# Altium footprint library X2SON-1+Ч1mm.PcbLib: 1 footprints
Each footprint in its own frame and in the unit in brackets; x right, y up, seen from the top. Pads: shape width x height; smd on the part's side, far side on the other; paste and mask are expansions set on the pad; w line width, h text height; cw(c..) or ccw(c..) is an arc to the next point about the centre after c.
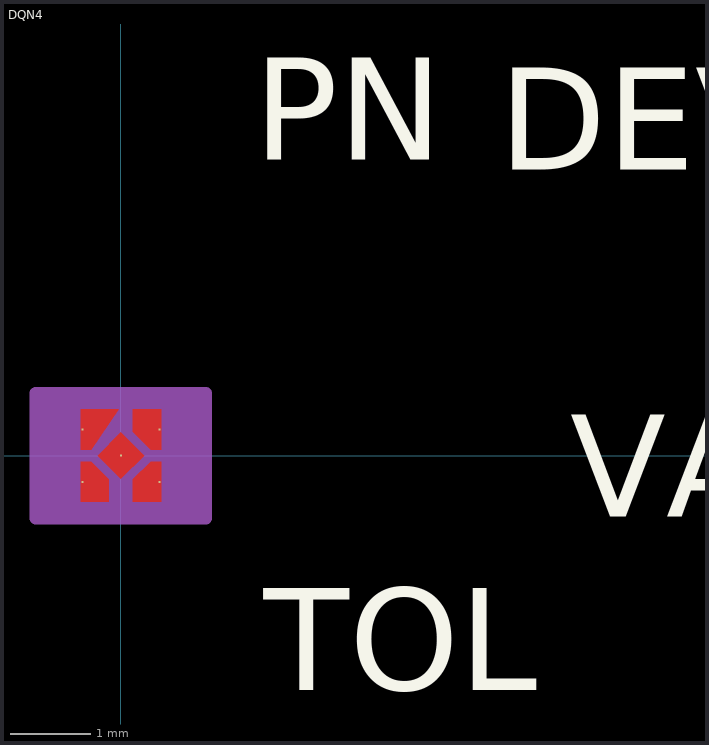
[diagram p0: the footprint, top view; thin cyan lines are the x and y axes]

## DQN4 [mil]
pads (5):
  rect 1x1 smd mask+0: 1(-18.8,12.8) 2(-18.8,-12.8) 3(18.8,-12.8) 4(18.8,12.8)
  rect 1x1 smd paste+0 mask+0: 5(0,0)
Top Layer:
  region: 11.42,0 0,11.42 -11.42,0 0,-11.42
  region: 5.91,22.64 19.68,22.64 19.68,2.95 14.57,2.95 5.91,11.61
  region: 14.57,-2.95 19.68,-2.95 19.68,-22.64 5.91,-22.64 5.91,-11.61
  region: -14.57,-2.95 -19.68,-2.95 -19.68,-22.64 -5.91,-22.64 -5.91,-11.61
  region: -0.98,22.64 -19.68,22.64 -19.68,2.95 -14.57,2.95
Top Overlay:
  text "TOL" at 70,-115 h50
  text "VAL" at 220,-30 h50
  text "DEV" at 185,140 h50
  text "PN" at 65,145 h50
Top Paste:
  region: 11.42,0 0,11.42 -11.42,0 0,-11.42
  region: 5.91,22.64 19.68,22.64 19.68,2.95 14.57,2.95 5.91,11.61
  region: 14.57,-2.95 19.68,-2.95 19.68,-22.64 5.91,-22.64 5.91,-11.61
  region: -14.57,-2.95 -19.68,-2.95 -19.68,-22.64 -5.91,-22.64 -5.91,-11.61
  region: -0.98,22.64 -19.68,22.64 -19.68,2.95 -14.57,2.95
Top Solder:
  region: 11.42,0 0,11.42 -11.42,0 0,-11.42
  region: 5.91,22.64 19.68,22.64 19.68,2.95 14.57,2.95 5.91,11.61
  region: 14.57,-2.95 19.68,-2.95 19.68,-22.64 5.91,-22.64 5.91,-11.61
  region: -14.57,-2.95 -19.68,-2.95 -19.68,-22.64 -5.91,-22.64 -5.91,-11.61
  region: -0.98,22.64 -19.68,22.64 -19.68,2.95 -14.57,2.95
Mechanical 13:
  text "RefDes2" at -15,75 h50
Mechanical 15:
  region: 41.69,-30.67 -41.69,-30.67 -41.69,30.67 41.69,30.67
  lines w6: -41.69,-30.67 41.69,-30.67 41.69,30.67 -41.69,30.67 -41.69,-30.67
3D body: height 10, standoff 0, extent 0,0 10,10